# Altium schematic symbol library SCH - DIODES - DIODE IPC.SCHLIB: 1 symbol
Pins are listed as number, name and electrical type; pins without a type are passive.

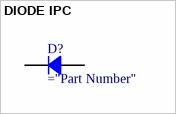
[diagram p0: symbol DIODE IPC]

## DIODE IPC
designator D?
Rectifier Diode
pins: 1, 2